# EAGLE library part LCD16X2 (library Ergaenzung)
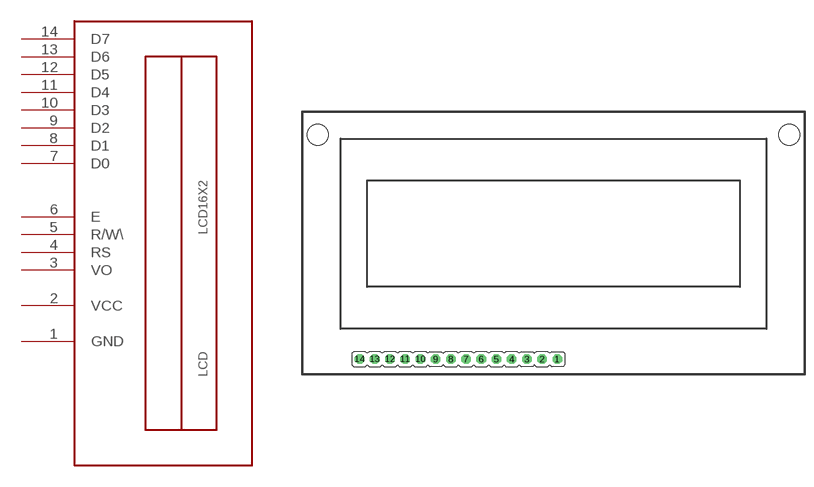
[diagram p0: symbol with the pads of LCD16X2; footprint LCD16X2]

Designator prefix LCD

## LCD16X2  [LCD16X2]
1  GND  sup
2  VCC  pwr
3  VO  in
4  RS  in
5  R/W\  in
6  E  in
7  D0
8  D1
9  D2
10  D3
11  D4
12  D5
13  D6
14  D7

## Footprint LCD16X2 (pad centres in mm)
drill 0.914 pad 1.6 octagon: 1 33.02,0; 2 30.48,0; 3 27.94,0; 4 25.4,0; 5 22.86,0; 6 20.32,0; 7 17.78,0; 8 15.24,0; 9 12.7,0; 10 10.16,0; 11 7.62,0; 12 5.08,0; 13 2.54,0; 14 0,0
hole 3.5 at -6.985,37.465
hole 3.5 at 71.755,37.465